# Altium footprint library M04.PcbLib: 1 footprints
Each footprint in its own frame and in the unit in brackets; x right, y up, seen from the top. Pads: shape width x height; smd on the part's side, far side on the other; paste and mask are expansions set on the pad; w line width, h text height; cw(c..) or ccw(c..) is an arc to the next point about the centre after c.
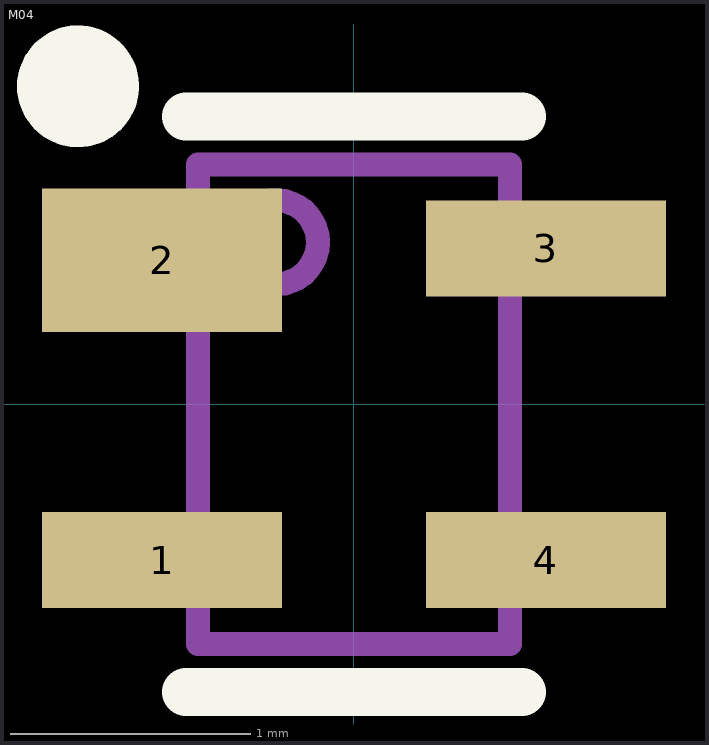
[diagram p0: the footprint, top view; thin cyan lines are the x and y axes]

## M04 [mm]
pads (4):
  rect 1x0.4 smd: 1(-0.8,-0.65) 3(0.8,0.65) 4(0.8,-0.65)
  rect 1x0.6 smd: 2(-0.8,0.6)
Top Overlay:
  circle w0.254: c-1.15,1.325 r0.127
  lines w0.2: -0.7,-1.2 0.7,-1.2 ; -0.7,1.2 0.7,1.2
Mechanical 13:
  circle w0.1: c-0.325,0.675 r0.175
  lines w0.1: -0.65,-1 0.65,-1 0.65,1 -0.65,1 -0.65,-1